# EAGLE library part LT1933 (library seb)
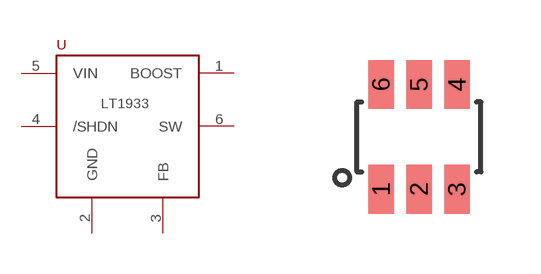
[diagram p16: symbol with the pads of SOT23-6L; footprint SOT23-6L]

Designator prefix -

## LT1933  [SOT23-6L]
1  BOOST
2  GND
3  FB
4  /SHDN
5  VIN
6  SW

## Footprint SOT23-6L (pad centres in mm)
smd 0.63 x 1.22: 1 -0.95,-1.31; 2 0,-1.31; 3 0.95,-1.31; 4 0.95,1.31; 5 0,1.31; 6 -0.95,1.31